# EAGLE library part ROHM-BH1749 (library FaBo-Mems)
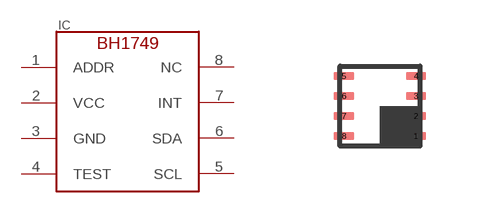
[diagram p40: symbol with the pads of ROHM-BH1749; footprint ROHM-BH1749]

Designator prefix IC

## ROHM-BH1749  [ROHM-BH1749]
1  ADDR
2  VCC
3  GND
4  TEST
5  SCL
6  SDA
7  INT
8  NC

## Footprint ROHM-BH1749 (pad centres in mm)
smd 0.5 x 0.2: 1 0.9,-0.75; 2 0.9,-0.25; 3 0.9,0.25; 4 0.9,0.75; 5 -0.9,0.75; 6 -0.9,0.25; 7 -0.9,-0.25; 8 -0.9,-0.75